# Altium footprint library PcbLib1.PcbLib: 15 footprints
Each footprint in its own frame and in the unit in brackets; x right, y up, seen from the top. Pads: shape width x height; smd on the part's side, far side on the other; paste and mask are expansions set on the pad; w line width, h text height; cw(c..) or ccw(c..) is an arc to the next point about the centre after c.
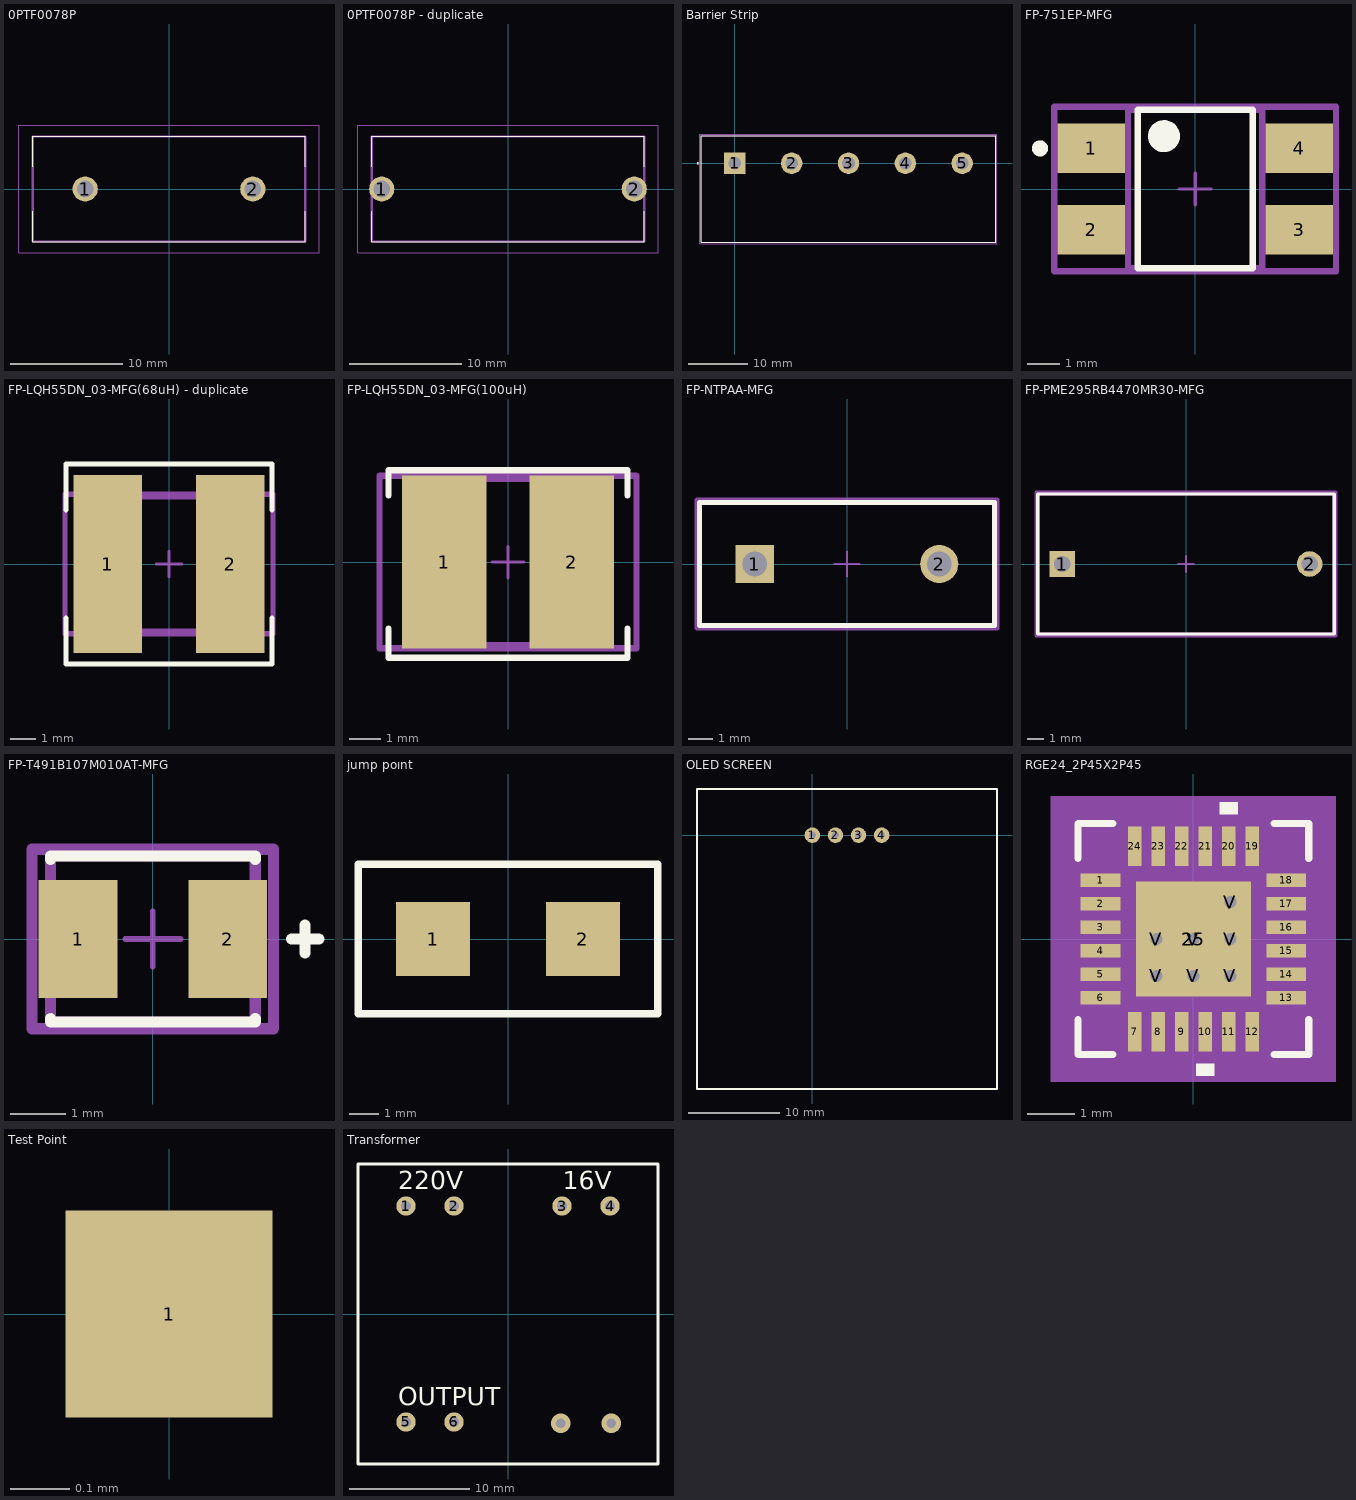
[diagram p0: the footprints below, top view; thin cyan lines are the x and y axes]

## 0PTF0078P [mm]
pads (2):
  round 2.25 hole 1.5: 1(-7.5,0) 2(7.5,0)
Top Overlay:
  lines w0.1: -12.2,-2 -12.2,-4.7 12.2,-4.7 12.2,-2 ; -12.2,2 -12.2,4.7 12.2,4.7 12.2,2
Mechanical 13:
  lines w0.2: -12.2,-4.7 -12.2,4.7 12.2,4.7 12.2,-4.7 -12.2,-4.7
Mechanical 15:
  lines w0.1: -13.425,-5.7 -13.425,5.7 13.425,5.7 13.425,-5.7 -13.425,-5.7
3D body "0PTF0078P.stp": height 11.45, standoff -3.55, extent -12.2,-4.7 12.2,4.7

## 0PTF0078P - duplicate [mm]
pads (2):
  round 2.25 hole 1.5: 1(-11.3,0) 2(11.3,0)
Top Overlay:
  lines w0.1: -12.2,-2 -12.2,-4.7 12.2,-4.7 12.2,-2 ; -12.2,2 -12.2,4.7 12.2,4.7 12.2,2
Mechanical 13:
  lines w0.2: -12.2,-4.7 -12.2,4.7 12.2,4.7 12.2,-4.7 -12.2,-4.7
Mechanical 15:
  lines w0.1: -13.425,-5.7 -13.425,5.7 13.425,5.7 13.425,-5.7 -13.425,-5.7
3D body "0PTF0078P.stp": height 11.45, standoff -3.55, extent -12.2,-4.7 12.2,4.7

## AC LİNE FİLTER [mm]

## Barrier Strip [mm]
pads (5):
  rect 3.6x3.6 hole 2.1: 1(0,0)
  round 3.6 hole 2.1: 2(9.53,0) 3(19.06,0) 4(28.59,0) 5(38.12,0)
Top Overlay:
  circle w0.2: c-6.238,0 r0.1
  lines w0.127: -5.588,-13.208 -5.588,4.572 43.708,4.572 43.708,-13.208 -5.588,-13.208
Mechanical 13:
  circle w0.2: c-6.238,0 r0.1
  lines w0.127: -5.588,-13.208 -5.588,4.572 43.708,4.572 43.708,-13.208 ; -5.588,-13.208 43.708,-13.208 ; -5.588,-13.208 43.708,-13.208
Mechanical 15:
  lines w0.05: -5.838,-13.458 -5.838,4.822 43.958,4.822 43.958,-13.458 -5.838,-13.458
3D body "8-1437652-5.stp": height 8.76, standoff -12.19, extent -5.537,-13.208 43.637,4.572

## FP-751EP-MFG [mm]
pads (4):
  rect 2.1x1.55 smd paste+0 mask+0: 1(-3.25,1.27) 2(-3.25,-1.27) 3(3.25,-1.27) 4(3.25,1.27)
Top Overlay:
  circle w0.5: c-0.975,1.65 r0.25
  circle w0.25: c-4.85,1.27 r0.125
  lines w0.2: -1.8,-2.475 -1.8,2.475 1.8,2.475 1.8,-2.475 -1.8,-2.475
Mechanical 5:
  lines w0.2: -4.4,-2.575 -4.4,2.575 4.4,2.575 4.4,-2.575 -4.4,-2.575
  text ".Designator" at 0,0.188 h1
Mechanical 13:
  lines w0.2: -2.1,-2.475 -2.1,2.475 2.1,2.475 2.1,-2.475 -2.1,-2.475
Mechanical 15:
  lines w0.2: -4.4,-2.575 -4.4,2.575 4.4,2.575 4.4,-2.575 -4.4,-2.575
Mechanical 16:
  lines w0.1: -0.5,0 0.5,0 ; 0,-0.5 0,0.5
3D body "Diode_ON_Semiconductor_MB4S_eec.STEP": height 0.25, standoff 0, extent -4.4,-2.575 4.4,2.575

## FP-LQH55DN_03-MFG(68uH) - duplicate [mm]
pads (2):
  rect 2.7x7 smd: 1(-2.413,0)
  rect 2.7x7 smd paste+0: 2(2.413,0)
Top Overlay:
  lines w0.2: -4.064,-2.125 -4.064,-3.937 4.064,-3.937 4.064,-2.125 ; -4.064,2.125 -4.064,3.937 4.064,3.937 4.064,2.125
Top 3D Body:
  lines w0.2: -3,-2.65 -3,2.65 3,2.65 3,-2.65 -3,-2.65
Top Assembly:
  lines w0.2: -4.1,-2.75 -4.1,2.75 4.1,2.75 4.1,-2.75 -4.1,-2.75
  text ".Designator" at 0,0.188 h1
Top Courtyard:
  lines w0.2: -4.1,-2.75 -4.1,2.75 4.1,2.75 4.1,-2.75 -4.1,-2.75
Top Component Center:
  lines w0.1: -0.5,0 0.5,0 ; 0,-0.5 0,0.5
3D body "Ind_Murata_LQH55DN150M03L_eec.STEP": height 0.25, standoff 0, extent -4.1,-2.75 4.1,2.75

## FP-LQH55DN_03-MFG(100uH) [mm]
pads (2):
  rect 2.7x5.5 smd: 1(-2.032,0)
  rect 2.7x5.5 smd paste+0: 2(2.032,0)
Top Overlay:
  lines w0.2: -3.81,-2.125 -3.81,-3.048 3.81,-3.048 3.81,-2.125 ; -3.81,2.125 -3.81,2.921 3.81,2.921 3.81,2.125
Top 3D Body:
  lines w0.2: -3,-2.65 -3,2.65 3,2.65 3,-2.65 -3,-2.65
Top Assembly:
  lines w0.2: -4.1,-2.75 -4.1,2.75 4.1,2.75 4.1,-2.75 -4.1,-2.75
  text ".Designator" at 0,0.188 h1
Top Courtyard:
  lines w0.2: -4.1,-2.75 -4.1,2.75 4.1,2.75 4.1,-2.75 -4.1,-2.75
Top Component Center:
  lines w0.1: -0.5,0 0.5,0 ; 0,-0.5 0,0.5
3D body "Ind_Murata_LQH55DN150M03L_eec.STEP": height 0.25, standoff 0, extent -4.1,-2.75 4.1,2.75

## FP-NTPAA-MFG [mm]
pads (2):
  rect 1.55x1.55 hole 1 paste-1000 mask+0: 1(-3.75,0)
  round 1.55 hole 1 paste-1000 mask+0: 2(3.75,0)
Top Overlay:
  lines w0.2: -6,-2.5 -6,2.5 6,2.5 6,-2.5 -6,-2.5
Mechanical 5:
  lines w0.2: -6.1,-2.6 -6.1,2.6 6.1,2.6 6.1,-2.6 -6.1,-2.6
  text ".Designator" at 0,-0.001 h1
Mechanical 13:
  lines w0.2: -6,-2.5 -6,2.5 6,2.5 6,-2.5 -6,-2.5
Mechanical 15:
  lines w0.2: -6.1,-2.6 -6.1,2.6 6.1,2.6 6.1,-2.6 -6.1,-2.6
Mechanical 16:
  lines w0.1: -0.5,0 0.5,0 ; 0,-0.5 0,0.5
3D body "Res_Murata_Electronics_North_America_NTPAA5R1LDNB0_eec.STEP": height 0.25, standoff 0, extent -6.1,-2.6 6.1,2.6

## FP-PME295RB4470MR30-MFG [mm]
pads (2):
  rect 1.55x1.55 hole 1 paste-1000 mask+0: 1(-7.5,0)
  round 1.55 hole 1 paste-1000 mask+0: 2(7.5,0)
Top Overlay:
  lines w0.2: -9,-4.25 -9,4.25 9,4.25 9,-4.25 -9,-4.25
Top 3D Body:
  lines w0.2: -9,-4.25 -9,4.25 9,4.25 9,-4.25 -9,-4.25
Top Assembly:
  lines w0.2: -9.1,-4.35 -9.1,4.35 9.1,4.35 9.1,-4.35 -9.1,-4.35
  text ".Designator" at 0,-0.001 h1
Top Courtyard:
  lines w0.2: -9.1,-4.35 -9.1,4.35 9.1,4.35 9.1,-4.35 -9.1,-4.35
Top Component Center:
  lines w0.1: -0.5,0 0.5,0 ; 0,-0.5 0,0.5
3D body "Cap_Kemet_PME295RB4470MR30_eec.STEP": height 0.25, standoff 0, extent -9.1,-4.35 9.1,4.35

## FP-T491B107M010AT-MFG [mm]
pads (2):
  rect 1.42x2.13 smd paste+0 mask+0: 1(-1.35,0) 2(1.35,0)
Top Overlay:
  lines w0.2: -1.85,-1.44 -1.85,-1.5 1.85,-1.5 1.85,-1.44 ; -1.85,1.44 -1.85,1.5 1.85,1.5 1.85,1.44 ; 2.5,0 3,0 ; 2.75,-0.25 2.75,0.25
Top 3D Body:
  lines w0.2: -1.85,-1.5 1.85,-1.5 1.85,1.5 -1.85,1.5 -1.85,-1.5
Top Assembly:
  lines w0.2: -2.18,-1.62 2.18,-1.62 2.18,1.62 -2.18,1.62 -2.18,-1.62
  text ".Designator" at 0,-0.001 h1
Top Courtyard:
  lines w0.2: -2.18,-1.62 2.18,-1.62 2.18,1.62 -2.18,1.62 -2.18,-1.62
Top Component Center:
  lines w0.1: -0.5,0 0.5,0 ; 0,-0.5 0,0.5
3D body "Cap_Kemet_T491B107M010AT_eec.STEP": height 0.25, standoff 0, extent -2.18,-1.62 2.18,1.62

## jump poınt [mm]
pads (2):
  rect 2.5x2.5 smd: 1(-2.54,0) 2(2.54,0)
Top Overlay:
  lines w0.254: -5.08,-2.54 5.08,-2.54 5.08,2.54 -5.08,2.54 -5.08,-2.54

## OLED SCREEN [mm]
pads (4):
  round 1.7 hole 0.762: 1(0,0) 2(2.54,0) 3(5.08,0) 4(7.62,0)
Top Overlay:
  lines w0.254: -12.7,-27.94 20.32,-27.94 20.32,5.08 -12.7,5.08 -12.7,-27.94
3D body "LM096-128064 OLED DISPLAY .step": height 9, standoff -2.6, extent -9.85,-25.7 17.35,1.5

## RGE24_2P45X2P45 [mm]
pads (32):
  rect 0.85x0.28 smd paste+0 mask+0: 1(-1.975,1.25) 2(-1.975,0.75) 3(-1.975,0.25) 4(-1.975,-0.25) 5(-1.975,-0.75) 6(-1.975,-1.25) 13(1.975,-1.25) 14(1.975,-0.75) 15(1.975,-0.25) 16(1.975,0.25) 17(1.975,0.75) 18(1.975,1.25)
  rect 0.28x0.85 smd paste+0 mask+0: 7(-1.25,-1.975) 8(-0.75,-1.975) 9(-0.25,-1.975) 10(0.25,-1.975) 11(0.75,-1.975) 12(1.25,-1.975) 19(1.25,1.975) 20(0.75,1.975) 21(0.25,1.975) 22(-0.25,1.975) 23(-0.75,1.975) 24(-1.25,1.975)
  rect 2.45x2.45 smd paste-1.225 mask-1.206: 25(0,0)
  round 0.508 hole 0.254: V(-0.787,-0.787) V(-0.787,0) V(0,-0.787) V(0,0) V(0.787,-0.787) V(0.787,0) V(0.787,0.787)
Top Overlay:
  region: 0.941,2.654 0.56,2.654 0.56,2.908 0.941,2.908
  region: 0.441,-2.654 0.06,-2.654 0.06,-2.908 0.441,-2.908
  lines w0.152: -2.456,-1.718 -2.456,-2.456 -1.718,-2.456 ; -2.456,1.718 -2.456,2.456 -1.718,2.456 ; 1.718,-2.456 2.456,-2.456 2.456,-1.718 ; 1.718,2.456 2.456,2.456 2.456,1.718
Top Paste:
  drawing of 16 lines, arcs and shapes, not listed
Top Solder:
  region: 0.987,-1.289 0.987,1.289 1.289,1.289 1.289,-1.289
  region: 0.587,-1.289 0.587,1.289 0.2,1.289 0.2,-1.289
  region: -0.2,-1.289 -0.2,1.289 -0.587,1.289 -0.587,-1.289
  region: -1.289,-1.289 -1.289,1.289 -0.987,1.289 -0.987,-1.289
  region: -1.289,-1.289 -1.289,-0.987 1.289,-0.987 1.289,-1.289
  region: -1.289,-0.587 -1.289,-0.2 1.289,-0.2 1.289,-0.587
  region: -1.289,0.2 -1.289,0.587 1.289,0.587 1.289,0.2
  region: -1.289,0.987 -1.289,1.289 1.289,1.289 1.289,0.987
Mechanical 5:
  region: 3.035,-3.035 -3.035,-3.035 -3.035,3.035 3.035,3.035
Mechanical 7:
Mechanical 13:
  lines w0.025: -2.075,0.805 -0.805,2.075 ; -2.075,-2.075 -2.075,2.075 2.075,2.075 2.075,-2.075 -2.075,-2.075
Mechanical 15:
  region: -1.644,-2.329 -2.329,-2.329 -2.329,-1.644 -2.654,-1.644 -2.654,1.644 -2.329,1.644 -2.329,2.329 -1.644,2.329 -1.644,2.654 1.644,2.654 1.644,2.329 2.329,2.329 2.329,1.644 2.654,1.644 2.654,-1.644 2.329,-1.644 2.329,-2.329 1.644,-2.329 1.644,-2.654 -1.644,-2.654
  lines w0.152: -2.654,-1.644 -2.654,1.644 -2.329,1.644 -2.329,2.329 -1.644,2.329 -1.644,2.654 1.644,2.654 1.644,2.329 2.329,2.329 2.329,1.644 2.654,1.644 2.654,-1.644 2.329,-1.644 2.329,-2.329 1.644,-2.329 1.644,-2.654 -1.644,-2.654 -1.644,-2.329 -2.329,-2.329 -2.329,-1.644 -2.654,-1.644
3D body "RGE24_2P45X2P45.step": height 1, standoff 0, extent -2.126,-2.126 2.126,2.126
3D body: height 0.25, standoff 0, extent 0,0 0.254,0.254

## Test Point [mm]
pads (1):
  rect 0.35x0.35 smd: 1(0,0)

## Transformer [mm]
pads (6):
  round 1.6 hole 0.8: 1(-8.5,9) 2(-4.5,9) 3(4.5,9) 4(8.5,9) 5(-8.5,-9) 6(-4.5,-9)
via 8.602,-9.102 diameter 1.6 hole 0.8
via 4.398,-9.102 diameter 1.6 hole 0.8
Top Overlay:
  lines w0.254: -12.5,-12.5 -12.5,12.5 12.5,12.5 12.5,-12.5 -12.5,-12.5
  text "OUTPUT" at -9.144,-7.586 h1.52
  text "16V" at 4.572,10.414 h1.52
  text "220V" at -9.144,10.414 h1.52
3D body "ST-3-28.STEP": height 22.56, standoff -8.45, extent -17.399,-15.748 17.526,15.608